# EAGLE library part LSM9DS1 (library st)
Mouser 部品番号：511-LSM9DS1TR メーカ部品番号：LSM9DS1TR メーカ:STMicroelectronics 詳細：IMU - 慣性測定ユニット MOTION MEMS CONSUMER
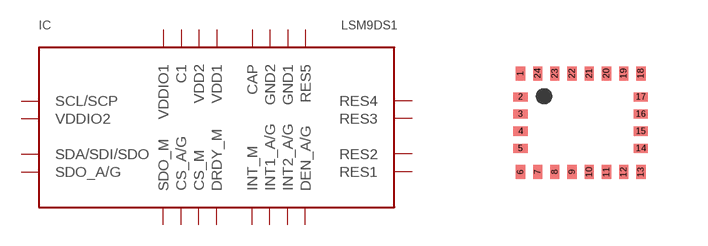
[diagram p0: symbol with the pads of LGA-24L; footprint LGA-24L]

Designator prefix IC

## LSM9DS1  [LGA-24L]
1  VDDIO1  pwr
2  SCL/SCP
3  VDDIO2  pwr
4  SDA/SDI/SDO
5  SDO_A/G
6  SDO_M
7  CS_A/G
8  CS_M
9  DRDY_M
10  INT_M
11  INT1_A/G
12  INT2_A/G
13  DEN_A/G
14  RES1
15  RES2
16  RES3
17  RES4
18  RES5
19  GND1  pwr
20  GND2  pwr
21  CAP  pwr
22  VDD1  pwr
23  VDD2  pwr
24  C1  pwr

## Footprint LGA-24L (pad centres in mm)
smd 0.23 x 0.35: 1 -1.505,1.235; 6 -1.505,-1.235; 7 -1.075,-1.235; 8 -0.645,-1.235; 9 -0.215,-1.235; 10 0.215,-1.235; 11 0.645,-1.235; 12 1.075,-1.235; 13 1.505,-1.235; 18 1.505,1.235; 19 1.075,1.235; 20 0.645,1.235; 21 0.215,1.235; 22 -0.215,1.235; 23 -0.645,1.235; 24 -1.075,1.235
smd 0.35 x 0.23: 2 -1.505,0.645; 3 -1.505,0.215; 4 -1.505,-0.215; 5 -1.505,-0.645; 14 1.505,-0.645; 15 1.505,-0.215; 16 1.505,0.215; 17 1.505,0.645